# Altium footprint library Datalogger.PcbLib: 55 footprints (part 2 of 4)
Each footprint in its own frame and in the unit in brackets; x right, y up, seen from the top. Pads: shape width x height; smd on the part's side, far side on the other; paste and mask are expansions set on the pad; w line width, h text height; cw(c..) or ccw(c..) is an arc to the next point about the centre after c.
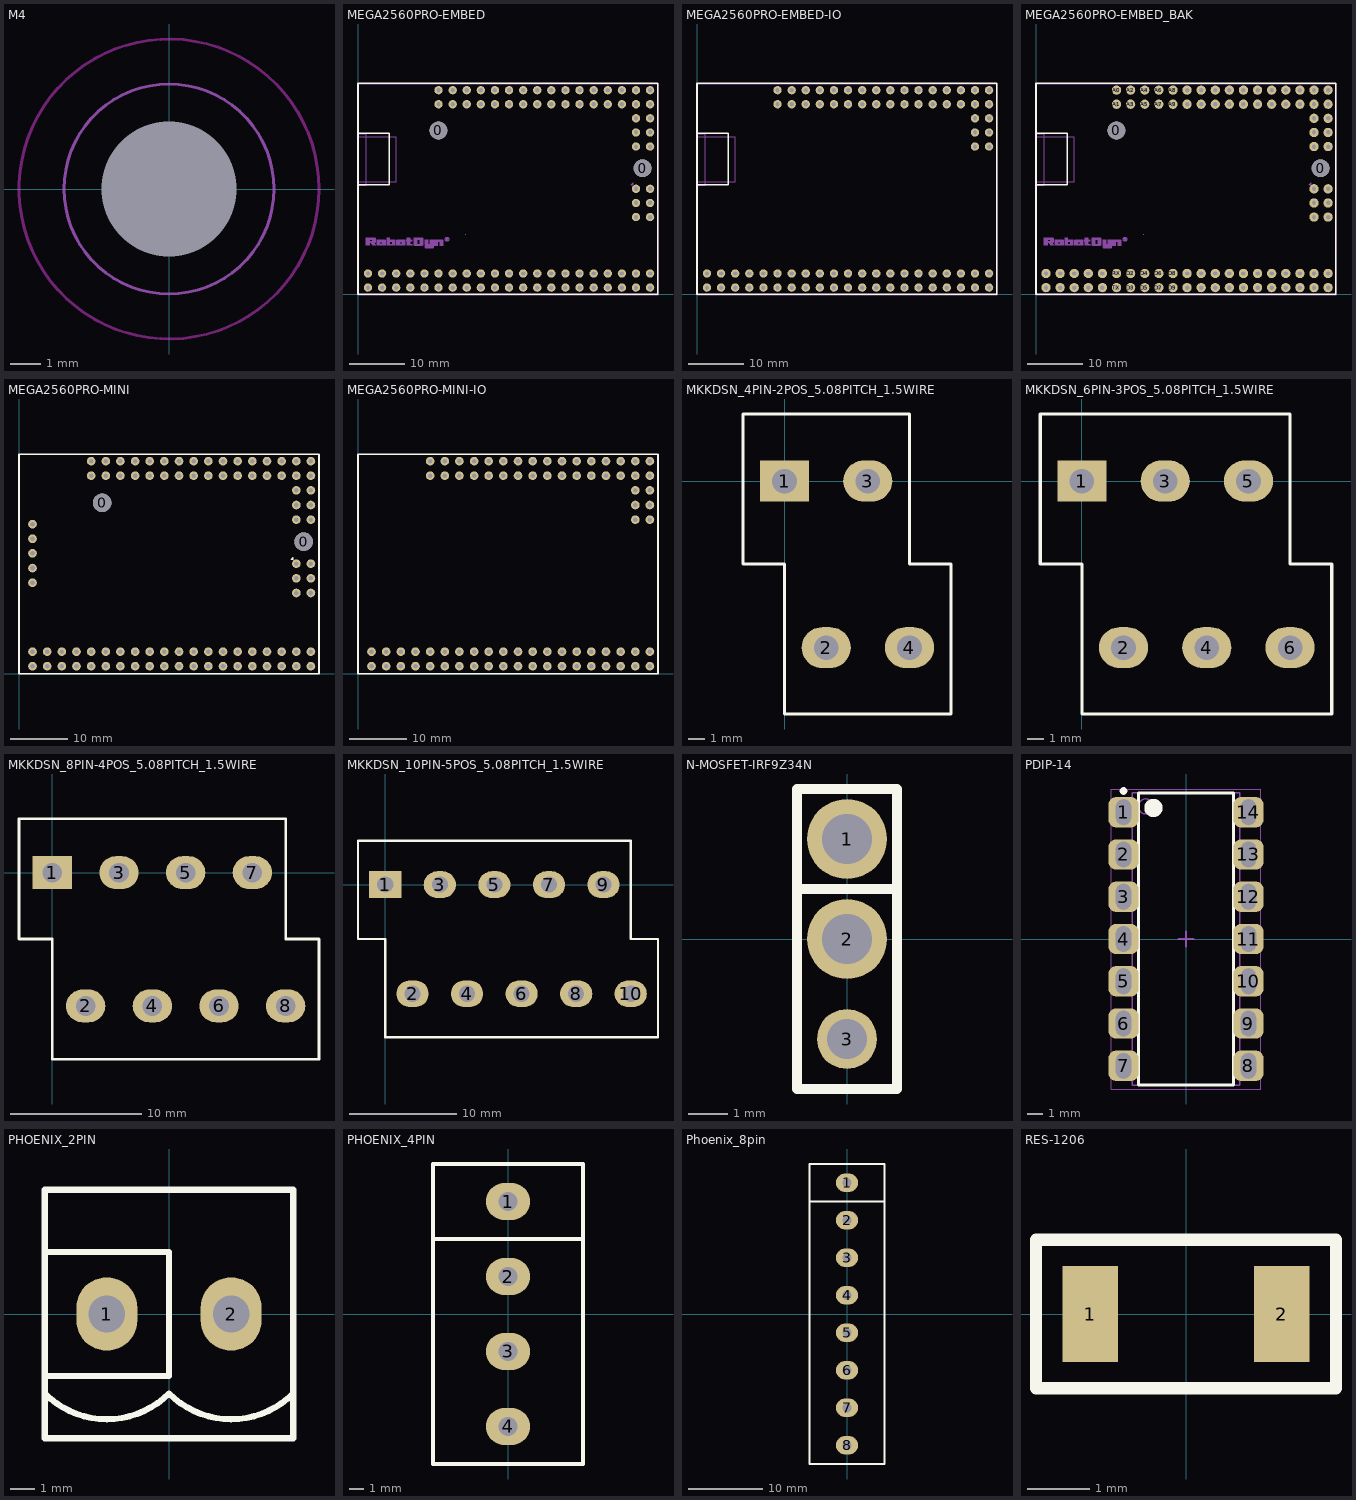
[diagram p1: the footprints below, top view; thin cyan lines are the x and y axes]

## M4 [mm] "M4 Screw Mounting Hole, 7mm Head Diameter Clearance"
height 1.5
pads (1):
  round 0 hole 4.5 unplated: 0(0,0)
Keep-Out Layer:
  circle w0.1: c0,0 r5
Top Courtyard:
  circle w0.1: c0,0 r3.5

## MEGA2560PRO-EMBED [mm]
pads (88):
  round 3.2 hole 3.2 unplated: 0(14.48,29.51) 0(51.25,22.71)
  round 1.5 hole 0.8: 3V3@1(9.42,1.22) 3V3@2(9.42,3.76) 5V@3(52.6,19) A0/D54(14.5,36.78) A1/D55(14.5,34.24) A2/D56(17.04,36.78) A3/D57(17.04,34.24) A4/D58(19.58,36.78) A5/D59(19.58,34.24) A6/D60(22.12,36.78) A7/D61(22.12,34.24) A8/D62(24.66,36.78) A9/D63(24.66,34.24) A10/D64(27.2,36.78) A11/D65(27.2,34.24) A12/D66(29.74,36.78) A13/D67(29.74,34.24) A14/D68(32.28,36.78) A15/D69(32.28,34.24) AREF(11.96,3.76) D0(14.5,3.76) D1(14.5,1.22) D2(17.04,3.76) D3(17.04,1.22) D4(19.58,3.76) D5(19.58,1.22) D6(22.12,3.76) D7(22.12,1.22) D8(24.66,3.76) D9(24.66,1.22) D10(27.2,3.76) D11(27.2,1.22) D12(29.74,3.76) D13(29.74,1.22) D14(32.28,3.76) D15(32.28,1.22) D16(34.82,3.76) D17(34.82,1.22) D18(37.36,3.76) D19(37.36,1.22) D20(39.9,3.76) D21(39.9,1.22) D22(42.44,3.76) D23(42.44,1.22) D24(44.98,3.76) D25(44.98,1.22) D26(47.52,3.76) D27(47.52,1.22) D28(50.06,3.76) D29(50.06,1.22) D30(52.6,3.76) D31(52.6,1.22) D32(34.82,36.78) D33(34.82,34.24) D34(37.36,36.78) D35(37.36,34.24) D36(39.9,36.78) D37(39.9,34.24) D38(42.44,36.78) D39(42.44,34.24) D40(44.98,36.78) D41(44.98,34.24) D42(47.52,36.78) D43(47.52,34.24) D44(50.06,36.78) D45(50.06,34.24) D46(52.6,36.78) D47(52.6,34.24) D48(52.6,31.7) D49(50.06,31.7) D50(52.6,29.16) D51(50.06,29.16) D52(52.6,26.62) D53(50.06,26.62) GND@1(4.34,1.22) GND@2(4.34,3.76) GND@3(52.6,13.92) MISO(50.06,19) MOSI(52.6,16.46) RESET(50.06,13.92) RST@1(11.96,1.22) SCK(50.06,16.46) VCC@1(6.88,1.22) VCC@2(6.88,3.76) VIN@1(1.8,1.22) VIN@2(1.8,3.76)
Top Overlay:
  lines w0.3: 0,19.72 5.6,19.72 5.6,29 0,29 ; 0,0 0,38 54,38 54,0 0,0
Mechanical 22:
  drawing of 237 lines, arcs and shapes, not listed

## MEGA2560PRO-EMBED-IO [mm]
pads (80):
  round 1.5 hole 0.8: 3V3@1(9.42,1.22) 3V3@2(9.42,3.76) A0/D54(14.5,36.78) A1/D55(14.5,34.24) A2/D56(17.04,36.78) A3/D57(17.04,34.24) A4/D58(19.58,36.78) A5/D59(19.58,34.24) A6/D60(22.12,36.78) A7/D61(22.12,34.24) A8/D62(24.66,36.78) A9/D63(24.66,34.24) A10/D64(27.2,36.78) A11/D65(27.2,34.24) A12/D66(29.74,36.78) A13/D67(29.74,34.24) A14/D68(32.28,36.78) A15/D69(32.28,34.24) AREF(11.96,3.76) D0(14.5,3.76) D1(14.5,1.22) D2(17.04,3.76) D3(17.04,1.22) D4(19.58,3.76) D5(19.58,1.22) D6(22.12,3.76) D7(22.12,1.22) D8(24.66,3.76) D9(24.66,1.22) D10(27.2,3.76) D11(27.2,1.22) D12(29.74,3.76) D13(29.74,1.22) D14(32.28,3.76) D15(32.28,1.22) D16(34.82,3.76) D17(34.82,1.22) D18(37.36,3.76) D19(37.36,1.22) D20(39.9,3.76) D21(39.9,1.22) D22(42.44,3.76) D23(42.44,1.22) D24(44.98,3.76) D25(44.98,1.22) D26(47.52,3.76) D27(47.52,1.22) D28(50.06,3.76) D29(50.06,1.22) D30(52.6,3.76) D31(52.6,1.22) D32(34.82,36.78) D33(34.82,34.24) D34(37.36,36.78) D35(37.36,34.24) D36(39.9,36.78) D37(39.9,34.24) D38(42.44,36.78) D39(42.44,34.24) D40(44.98,36.78) D41(44.98,34.24) D42(47.52,36.78) D43(47.52,34.24) D44(50.06,36.78) D45(50.06,34.24) D46(52.6,36.78) D47(52.6,34.24) D48(52.6,31.7) D49(50.06,31.7) D50(52.6,29.16) D51(50.06,29.16) D52(52.6,26.62) D53(50.06,26.62) GND@1(4.34,1.22) GND@2(4.34,3.76) RST@1(11.96,1.22) VCC@1(6.88,1.22) VCC@2(6.88,3.76) VIN@1(1.8,1.22) VIN@2(1.8,3.76)
Top Overlay:
  lines w0.3: 0,19.72 5.6,19.72 5.6,29 0,29 ; 0,0 0,38 54,38 54,0 0,0
Mechanical 22:
  lines w0.127: 0.022,-0.05 0.022,19.686 1.521,19.686 1.521,28.957 0.022,28.957 0.022,37.948 54.022,37.948 54.022,-0.05 0.022,-0.05 ; 0.022,20.27 0.022,28.398 6.88,28.398 6.88,20.27 0.022,20.27

## MEGA2560PRO-EMBED_BAK [mil]
pads (88):
  round 125.98 hole 125.98 unplated: 0(570.08,1161.81) 0(2017.72,894.09)
  round 66 / inner round 60 / far side round 66 hole 31.5: 3V3@1(370.87,48.03) 3V3@2(370.87,148.03) 5V@1(270.87,48.03) 5V@2(270.87,148.03) 5V@3(2070.87,748.03) A0(570.87,1448.03) A1(570.87,1348.03) A2(670.87,1448.03) A3(670.87,1348.03) A4(770.87,1448.03) A5(770.87,1348.03) A6(870.87,1448.03) A7(870.87,1348.03) A8(970.87,1448.03) A9(970.87,1348.03) A10(1070.87,1448.03) A11(1070.87,1348.03) A12(1170.87,1448.03) A13(1170.87,1348.03) A14(1270.87,1448.03) A15(1270.87,1348.03) AREF(470.87,148.03) D2(670.87,148.03) D3(670.87,48.03) D4(770.87,148.03) D5(770.87,48.03) D6(870.87,148.03) D7(870.87,48.03) D8(970.87,148.03) D9(970.87,48.03) D10(1070.87,148.03) D11(1070.87,48.03) D12(1170.87,148.03) D13(1170.87,48.03) D14(1270.87,148.03) D15(1270.87,48.03) D16(1370.87,148.03) D17(1370.87,48.03) D18(1470.87,148.03) D19(1470.87,48.03) D20(1570.87,148.03) D21(1570.87,48.03) D22(1670.87,148.03) D23(1670.87,48.03) D24(1770.87,148.03) D25(1770.87,48.03) D26(1870.87,148.03) D27(1870.87,48.03) D28(1970.87,148.03) D29(1970.87,48.03) D30(2070.87,148.03) D31(2070.87,48.03) D32(1370.87,1448.03) D33(1370.87,1348.03) D34(1470.87,1448.03) D35(1470.87,1348.03) D36(1570.87,1448.03) D37(1570.87,1348.03) D38(1670.87,1448.03) D39(1670.87,1348.03) D40(1770.87,1448.03) D41(1770.87,1348.03) D42(1870.87,1448.03) D43(1870.87,1348.03) D44(1970.87,1448.03) D45(1970.87,1348.03) D46(2070.87,1448.03) D47(2070.87,1348.03) D48(2070.87,1248.03) D49(1970.87,1248.03) D50(2070.87,1148.03) D51(1970.87,1148.03) D52(2070.87,1048.03) D53(1970.87,1048.03) GND@1(170.87,48.03) GND@2(170.87,148.03) GND@3(2070.87,548.03) MISO(1970.87,748.03) MOSI(2070.87,648.03) RESET(1970.87,548.03) RST(470.87,48.03) RX(570.87,148.03) SCK(1970.87,648.03) TX(570.87,48.03) VIN@1(70.87,48.03) VIN@2(70.87,148.03)
Top Overlay:
  lines w11.81: 0,776.38 220.47,776.38 220.47,1141.73 0,1141.73 ; 0,0 2125.98,0 2125.98,1496.06 0,1496.06 0,0
Mechanical 22:
  drawing of 237 lines, arcs and shapes, not listed

## MEGA2560PRO-MINI [mm]
pads (91):
  round 3.2 hole 3.2 unplated: 0(14.405,29.601) 0(49.33,22.87)
  round 1.5 / inner round 1.524 / far side round 1.676 hole 0.8: 5V@3(50.6,19.06) A0/D54(12.5,36.84) A1/D55(12.5,34.3) A2/D56(15.04,36.84) A3/D57(15.04,34.3) A4/D58(17.58,36.84) A5/D59(17.58,34.3) A6/D60(20.12,36.84) A7/D61(20.12,34.3) A8/D62(22.66,36.84) A9/D63(22.66,34.3) A10/D64(25.2,36.84) A11/D65(25.2,34.3) A12/D66(27.74,36.84) A13/D67(27.74,34.3) A14/D68(30.28,36.84) A15/D69(30.28,34.3) AREF(9.96,3.82) D0(12.5,3.82) D1(12.5,1.28) D2(15.04,3.82) D3(15.04,1.28) D4(17.58,3.82) D5(17.58,1.28) D6(20.12,3.82) D7(20.12,1.28) D8(22.66,3.82) D9(22.66,1.28) D10(25.2,3.82) D11(25.2,1.28) D12(27.74,3.82) D13(27.74,1.28) D14(30.28,3.82) D15(30.28,1.28) D16(32.82,3.82) D17(32.82,1.28) D18(35.36,3.82) D19(35.36,1.28) D20(37.9,3.82) D21(37.9,1.28) D22(40.44,3.82) D23(40.44,1.28) D24(42.98,3.82) D25(42.98,1.28) D26(45.52,3.82) D27(45.52,1.28) D28(48.06,3.82) D29(48.06,1.28) D30(50.6,3.82) D31(50.6,1.28) D32(32.82,36.84) D33(32.82,34.3) D34(35.36,36.84) D35(35.36,34.3) D36(37.9,36.84) D37(37.9,34.3) D38(40.44,36.84) D39(40.44,34.3) D40(42.98,36.84) D41(42.98,34.3) D42(45.52,36.84) D43(45.52,34.3) D44(48.06,36.84) D45(48.06,34.3) D46(50.6,36.84) D47(50.6,34.3) D48(50.6,31.76) D49(48.06,31.76) D50(50.6,29.22) D51(48.06,29.22) D52(50.6,26.68) D53(48.06,26.68) GND@1(4.88,1.28) GND@2(4.88,3.82) GND@3(50.6,13.98) GND@4(2.34,25.918) MISO(48.06,19.06) MOSI(50.6,16.52) RESET(48.06,13.98) RST@1(9.96,1.28) RST@2(2.34,15.758) RX@2(2.34,20.838) SCK(48.06,16.52) TX@2(2.34,18.298) VCC@1(7.42,1.28) VCC@2(7.42,3.82) VCC@3(2.34,23.378) VIN@1(2.34,1.28) VIN@2(2.34,3.82)
Top Overlay:
  lines w0.127: 47.171,19.822 47.552,20.203 47.552,19.822 47.171,19.822
  lines w0.3: 0,0 0,38 52,38 52,0 0,0

## MEGA2560PRO-MINI-IO [mm] "IO breakout of RobotDyn MEGA2560PRO-MINI, does not include ICSP and Serial programmer headers"
pads (78):
  round 1.5 / inner round 1.524 / far side round 1.676 hole 0.8: A0/D54(12.5,36.84) A1/D55(12.5,34.3) A2/D56(15.04,36.84) A3/D57(15.04,34.3) A4/D58(17.58,36.84) A5/D59(17.58,34.3) A6/D60(20.12,36.84) A7/D61(20.12,34.3) A8/D62(22.66,36.84) A9/D63(22.66,34.3) A10/D64(25.2,36.84) A11/D65(25.2,34.3) A12/D66(27.74,36.84) A13/D67(27.74,34.3) A14/D68(30.28,36.84) A15/D69(30.28,34.3) AREF(9.96,3.82) D0(12.5,3.82) D1(12.5,1.28) D2(15.04,3.82) D3(15.04,1.28) D4(17.58,3.82) D5(17.58,1.28) D6(20.12,3.82) D7(20.12,1.28) D8(22.66,3.82) D9(22.66,1.28) D10(25.2,3.82) D11(25.2,1.28) D12(27.74,3.82) D13(27.74,1.28) D14(30.28,3.82) D15(30.28,1.28) D16(32.82,3.82) D17(32.82,1.28) D18(35.36,3.82) D19(35.36,1.28) D20(37.9,3.82) D21(37.9,1.28) D22(40.44,3.82) D23(40.44,1.28) D24(42.98,3.82) D25(42.98,1.28) D26(45.52,3.82) D27(45.52,1.28) D28(48.06,3.82) D29(48.06,1.28) D30(50.6,3.82) D31(50.6,1.28) D32(32.82,36.84) D33(32.82,34.3) D34(35.36,36.84) D35(35.36,34.3) D36(37.9,36.84) D37(37.9,34.3) D38(40.44,36.84) D39(40.44,34.3) D40(42.98,36.84) D41(42.98,34.3) D42(45.52,36.84) D43(45.52,34.3) D44(48.06,36.84) D45(48.06,34.3) D46(50.6,36.84) D47(50.6,34.3) D48(50.6,31.76) D49(48.06,31.76) D50(50.6,29.22) D51(48.06,29.22) D52(50.6,26.68) D53(48.06,26.68) GND@1(4.88,1.28) GND@2(4.88,3.82) RST@1(9.96,1.28) VCC@1(7.42,1.28) VCC@2(7.42,3.82) VIN@1(2.34,1.28) VIN@2(2.34,3.82)
Top Overlay:
  lines w0.3: 0,0 0,38 52,38 52,0 0,0

## MKKDSN_4PIN-2POS_5.08PITCH_1.5WIRE [mm] "Phoenix MKKDSN 5.08mm Pitch, 2-Position, 4 Pin, 1.5mm Wire Cross"
pads (4):
  rect 3x2.5 hole 1.5: 1(0,0)
  oval 3x2.5 hole 1.5: 2(2.54,-10.16) 3(5.08,0) 4(7.62,-10.16)
Top Overlay:
  lines w0.2: -2.54,-5.06 0,-5.06 0,-14.21 10.16,-14.21 10.16,-5.06 7.62,-5.06 7.62,4.09 -2.54,4.09 -2.54,-5.06
Top Designator (Mech11):
  text "3" at 4.657,-3 h1.27
  text "4" at 7.197,-8.33 h1.27
  text "2" at 2.117,-8.33 h1.27
  text "1" at -0.22,-3 h1.27
3D body "1726040.stp": height 19.1, standoff -3.5, extent -3.11,-14.2 10.16,4.1

## MKKDSN_6PIN-3POS_5.08PITCH_1.5WIRE [mm] "Phoenix MKKDSN 5.08mm Pitch, 3-Position, 6 Pin, 1.5mm Wire Cross"
pads (6):
  rect 3x2.5 hole 1.5: 1(0,0)
  oval 3x2.5 hole 1.5: 2(2.54,-10.16) 3(5.08,0) 4(7.62,-10.16) 5(10.16,0) 6(12.7,-10.16)
Top Overlay:
  lines w0.2: -2.54,-5.06 -2.54,4.09 12.7,4.09 12.7,-5.06 15.24,-5.06 15.24,-14.21 0,-14.21 0,-5.06 -2.54,-5.06
Top Designator (Mech11):
  text "2" at 2.117,-8.33 h1.27
  text "6" at 12.277,-8.33 h1.27
  text "1" at -0.22,-3 h1.27
  text "5" at 9.737,-3 h1.27
3D body "1726040.stp": height 19.1, standoff -3.5, extent 1.97,-14.2 15.24,4.1
3D body "1726040.stp": height 19.1, standoff -3.5, extent -3.11,-14.2 10.16,4.1

## MKKDSN_8PIN-4POS_5.08PITCH_1.5WIRE [mm] "Phoenix MKKDSN 5.08mm Pitch, 4-Position, 8 Pin, 1.5mm Wire Cross"
pads (8):
  rect 3x2.5 hole 1.5: 1(0,0)
  oval 3x2.5 hole 1.5: 2(2.54,-10.16) 3(5.08,0) 4(7.62,-10.16) 5(10.16,0) 6(12.7,-10.16) 7(15.24,0) 8(17.78,-10.16)
Top Overlay:
  lines w0.2: -2.54,-5.06 0,-5.06 0,-14.21 20.32,-14.21 20.32,-5.06 17.78,-5.06 17.78,4.09 -2.54,4.09 -2.54,-5.06
Top Designator (Mech11):
  text "7" at 14.817,-3 h1.27
  text "1" at -0.22,-3 h1.27
  text "8" at 17.357,-8.33 h1.27
  text "2" at 2.117,-8.33 h1.27
3D body "1726040.stp": height 19.1, standoff -3.5, extent 7.05,-14.2 20.32,4.1
3D body "1726040.stp": height 19.1, standoff -3.5, extent -3.11,-14.2 10.16,4.1

## MKKDSN_10PIN-5POS_5.08PITCH_1.5WIRE [mm] "Phoenix MKKDSN 5.08mm Pitch, 5-Position, 10 Pin, 1.5mm Wire Cross"
pads (10):
  rect 3x2.5 hole 1.5: 1(0,0)
  oval 3x2.5 hole 1.5: 2(2.54,-10.16) 3(5.08,0) 4(7.62,-10.16) 5(10.16,0) 6(12.7,-10.16) 7(15.24,0) 8(17.78,-10.16) 9(20.32,0) 10(22.86,-10.16)
Top Overlay:
  lines w0.2: -2.54,-5.06 -2.54,4.09 22.86,4.09 22.86,-5.06 25.4,-5.06 25.4,-14.21 0,-14.21 0,-5.06 -2.54,-5.06
Top Designator (Mech11):
  text "1" at -0.22,-3 h1.27
  text "2" at 2.117,-8.33 h1.27
  text "10" at 21.908,-8.33 h1.27
  text "9" at 19.96,-3 h1.27
3D body "1726040.stp": height 19.1, standoff -3.5, extent -3.11,-14.2 10.16,4.1
3D body "1726040.stp": height 19.1, standoff -3.5, extent 7.05,-14.2 20.32,4.1
3D body "1726040.stp": height 19.1, standoff -3.5, extent 12.13,-14.2 25.4,4.1

## N-MOSFET-IRF9Z34N [mil] "8 pin arduino"
height 10
pads (3):
  round 80 hole 50: 1(0,100) 2(0,0)
  round 60 hole 40: 3(0,-100)
Top Overlay:
  lines w10: -50,50 50,50 ; -50,-150 50,-150 50,150 -50,150 -50,-150

## PDIP-14 [mm] "PDIP, 14-Leads, Body 18.29x6.35mm, Pitch 2.79mm, IPC Medium Density"
height 5.08
pads (14):
  rrect50% 2x2 hole 1 slot 1.7 at 90 deg paste-2539.97 mask+0.25: 1(-4.125,8.37) 2(-4.125,5.58) 3(-4.125,2.79) 4(-4.125,0) 5(-4.125,-2.79) 6(-4.125,-5.58) 7(-4.125,-8.37) 8(4.125,-8.37) 9(4.125,-5.58) 10(4.125,-2.79) 11(4.125,0) 12(4.125,2.79) 13(4.125,5.58) 14(4.125,8.37)
Top Overlay:
  circle w0.6: c-2.15,8.65 r0.3
  circle w0.25: c-4.125,9.77 r0.125
  lines w0.2: -3.15,-9.65 3.15,-9.65 3.15,9.65 -3.15,9.65 -3.15,-9.65
Top 3D Body (Mech13):
  circle w0.1: c-2.65,8.75 r0.5
  lines w0.1: -3.55,-9.65 3.55,-9.65 3.55,9.65 -3.55,9.65 -3.55,-9.65
Top Courtyard:
  lines w0.05: -4.925,-9.9 4.925,-9.9 4.925,9.9 -4.925,9.9 -4.925,-9.9
Top Component Center:
  lines w0.1: -0.5,0 0.5,0 ; 0,-0.5 0,0.5
3D body: height 5.08, standoff 1.27, extent -3.55,-9.65 3.55,9.65

## PHOENIX_2PIN [mm]
pads (2):
  oval 2.5x3 hole 1.5: 1(-2.54,0) 2(2.54,0)
Top Overlay:
  lines w0.254: -5.08,-3.25 ccw(c-2.54,-0.71) 0,-3.25 ccw(c2.54,-0.71) 5.08,-3.25 ; -5.08,-2.54 0,-2.54 0,2.54 -5.08,2.54 ; -5.08,-5.08 -5.08,5.08 5.08,5.08 5.08,-5.08 -5.08,-5.08
Top Designator (Mech11):
  text "1" at -6.5,-0.79 h1.27

## PHOENIX_4PIN [mm]
pads (4):
  oval 3x2.5 hole 1.27 paste-2539.97 mask+0.102: 1(0,7.62) 2(0,2.54) 3(0,-2.54) 4(0,-7.62)
Top Overlay:
  lines w0.254: -5.08,5.08 5.08,5.08 ; -5.08,-10.16 -5.08,10.16 5.08,10.16 5.08,-10.16 -5.08,-10.16
Top Designator (Mech11):
  text "1" at -2.54,7.62 h1.27
3D body "Screw Terminal Block 2 Way 5mm.step": height 10, standoff -2, extent -4,-10.035 4,0.115
3D body "Screw Terminal Block 2 Way 5mm.step": height 10, standoff -2, extent -4,0.125 4,10.275

## Phoenix_8pin [mm]
pads (8):
  oval 3x2.5 hole 1.27: 1(0,17.78) 2(0,12.7) 3(0,7.62) 4(0,2.54) 5(0,-2.54) 6(0,-7.62) 7(0,-12.7) 8(0,-17.78)
Top Overlay:
  lines w0.254: -5.08,15.24 5.08,15.24 ; -5.08,-20.32 -5.08,20.32 5.08,20.32 5.08,-20.32 -5.08,-20.32
Top Designator (Mech11):
  text "1" at -2.54,17.78 h1.27
3D body "Screw Terminal Block 2 Way 5mm.step": height 10, standoff -2, extent -4,-20.195 4,-10.045
3D body "Screw Terminal Block 2 Way 5mm.step": height 10, standoff -2, extent -4,-10.035 4,0.115
3D body "Screw Terminal Block 2 Way 5mm.step": height 10, standoff -2, extent -4,0.125 4,10.275
3D body "Screw Terminal Block 2 Way 5mm.step": height 10, standoff -2, extent -4,10.285 4,20.435

## RES-1206 [mm]
pads (2):
  rect 0.9x1.55 smd: 1(-1.55,0) 2(1.55,0)
Top Overlay:
  lines w0.2: -2.425,-1.2 2.425,-1.2 2.425,1.2 -2.425,1.2 -2.425,0 -2.425,-1.2